# Altium schematic symbol library TLV2444CD.SchLib: 1 symbol
Pins are listed as number, name and electrical type; pins without a type are passive.

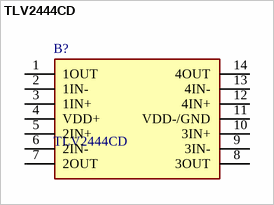
[diagram p0: symbol TLV2444CD]

## TLV2444CD
designator B?
Advanced LinCMOS&trade; rail-to-rail output wide-input-voltage quad operational amplifier; Manufacturer_Name: Texas Instruments; Geometry.Height: 1.75mm; Mouser Part Number: 595-TLV2444CD; Mouser Price/Stock: https://www.mouser.co.uk/ProductDetail/Texas-Instruments/TLV2444CD?qs=q2XTDbzbm6AEGF4t9aVmdQ%3D%3D; Manufacturer_Part_Number: TLV2444CD; Datasheet Link: http://www.ti.com/lit/gpn/tlv2444
footprint SOIC127P600X175-14N
pins: 1 1OUT, 2 1IN-, 3 1IN+, 4 VDD+, 5 2IN+, 6 2IN-, 7 2OUT, 8 3OUT, 9 3IN-, 10 3IN+, 11 VDD-/GND, 12 4IN+, 13 4IN-, 14 4OUT